# Altium schematic symbol library Trans,NPN,300V,500mA,SMD.Schlib: 1 symbol
Pins are listed as number, name and electrical type; pins without a type are passive.

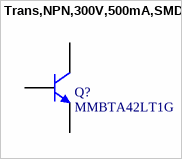
[diagram p0: symbol Trans,NPN,300V,500mA,SMD]

## Trans,NPN,300V,500mA,SMD
designator Q?, comment MMBTA42LT1G
Bipolar (BJT) Transistor NPN 300V 500mA 50MHz 225mW Surface Mount SOT-23-3 (TO-236)
pins: 1 B, 2 E, 3 C